# EAGLE library part WE-LAN_10/100_BASETX_749010013 (library Wuerth_Elektronik_eiSos_ v6.8)
LAN-Transformer WE-LAN 10/100 Base Tx - Compliant with IEEE 802.3 standards - SMD -- Ethernet -- Power over Ethernet -- 1 Gigabit Ethernet -- Compliant with most IC's for ethernet applications like Intel, AMD, Globespan and Realtek -- Hub, Router, Switch
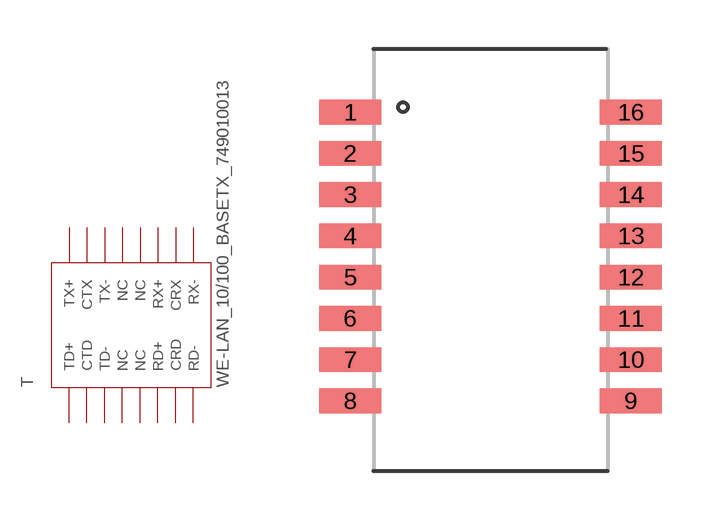
[diagram p18: symbol with the pads of WE-LAN_10/100_BASETX_749010013; footprint WE-LAN_10/100_BASETX_749010013]

Designator prefix T

## WE-LAN_10/100_BASETX_749010013  [WE-LAN_10/100_BASETX_749010013]
1  TD+  pas
2  CTD  pas
3  TD-  pas
4  NC  pas
5  NC  pas
6  RD+  pas
7  CRD  pas
8  RD-  pas
9  RX-  pas
10  CRX  pas
11  RX+  pas
12  NC  pas
13  NC  pas
14  TX-  pas
15  CTX  pas
16  TX+  pas

## Footprint WE-LAN_10/100_BASETX_749010013 (pad centres in mm)
WE-LAN 10/100 BaseTx
smd 1.91 x 0.76: 1 -4.317,4.445; 2 -4.317,3.175; 3 -4.317,1.905; 4 -4.317,0.635; 5 -4.317,-0.635; 6 -4.317,-1.905; 7 -4.317,-3.175; 8 -4.317,-4.445; 9 4.317,-4.445; 10 4.317,-3.175; 11 4.317,-1.905; 12 4.317,-0.635; 13 4.317,0.635; 14 4.317,1.905; 15 4.317,3.175; 16 4.317,4.445